# Altium footprint library RS_HEATSINK_HS125A.PcbLib: 1 footprints
Each footprint in its own frame and in the unit in brackets; x right, y up, seen from the top. Pads: shape width x height; smd on the part's side, far side on the other; paste and mask are expansions set on the pad; w line width, h text height; cw(c..) or ccw(c..) is an arc to the next point about the centre after c.
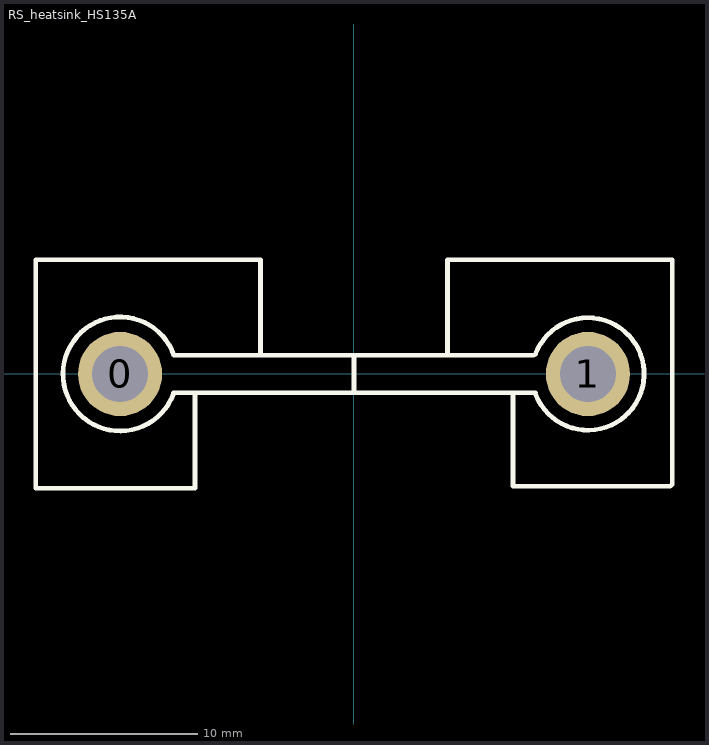
[diagram p0: the footprint, top view; thin cyan lines are the x and y axes]

## RS_heatsink_HS135A [mm]
pads (2):
  round 4.5 hole 3: 0(-12.5,0) 1(12.5,0)
Top Overlay:
  lines w0.254: -9.65,-1.081 cw(c-12.5,0) -9.621,1.001 ; -9.65,-1 9.7,-1 ; -9.6,1 9.6,1 ; -8.5,-1 -8.5,-6.1 -17,-6.1 -17,6.1 -5,6.1 ; -5,1 -5,6.1 ; 0,-1 0,1 ; 5,1 5,6.1 ; 8.5,-1 8.5,-6 16.9,-6 17,-5.9 17,6.1 5,6.1 ; 9.695,1.069 cw(c12.5,0) 9.72,-1.133 ; -5,6.1 -5,6.1 ; 5,6.1 5,6.1
3D body: height 37, standoff 0, extent -17.023,0 -8.5,6.1
3D body: height 37, standoff 0, extent 8.5,-6.1 17.023,0
3D body: height 37, standoff 0, extent -17.023,-6.1 -8.5,0
3D body: height 37, standoff 0, extent 8.5,0 17.023,6.1
3D body: height 37, standoff 10, extent -8.5,-1 8.5,1